# EAGLE library part MOLEX_50348_0.5MM_10POS (library ck)
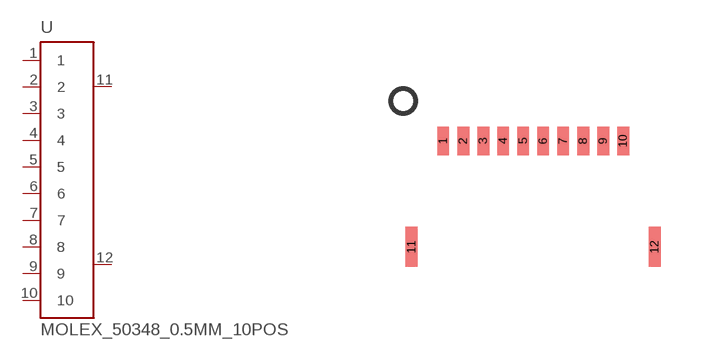
[diagram p16: symbol with the pads of MOLEX_50348_0.5MM_10POS; footprint MOLEX_50348_0.5MM_10POS]

Designator prefix U

## MOLEX_50348_0.5MM_10POS  [MOLEX_50348_0.5MM_10POS]
1  1
2  2
3  3
4  4
5  5
6  6
7  7
8  8
9  9
10  10
11  A
12  B

## Footprint MOLEX_50348_0.5MM_10POS (pad centres in mm)
smd 0.3 x 0.7: 1 0,0; 2 0.5,0; 3 1,0; 4 1.5,0; 5 2,0; 6 2.5,0; 7 3,0; 8 3.5,0; 9 4,0; 10 4.5,0
smd 0.3 x 1: 11 -0.79,-2.65; 12 5.29,-2.65